# Altium footprint library final_pcb.PcbLib: 13 footprints
Each footprint in its own frame and in the unit in brackets; x right, y up, seen from the top. Pads: shape width x height; smd on the part's side, far side on the other; paste and mask are expansions set on the pad; w line width, h text height; cw(c..) or ccw(c..) is an arc to the next point about the centre after c.
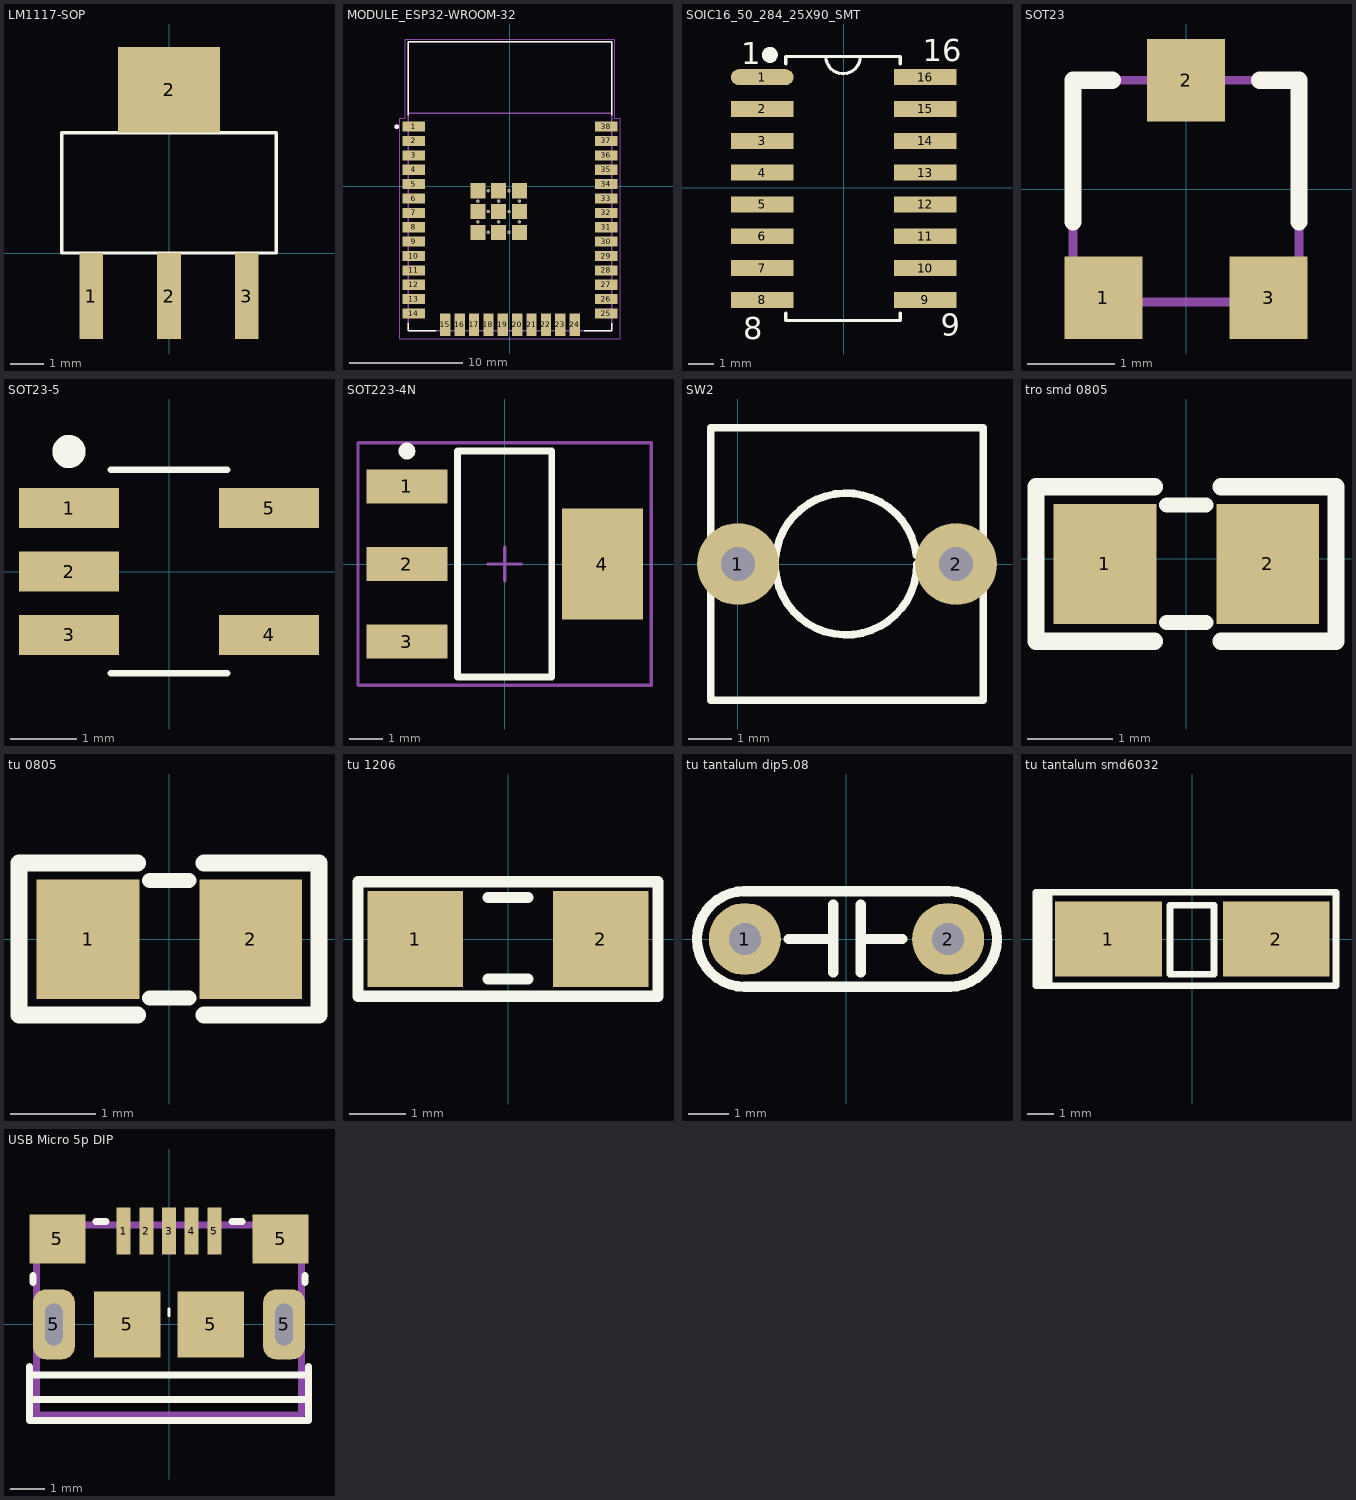
[diagram p0: the footprints below, top view; thin cyan lines are the x and y axes]

## LM1117-SOP [mm]
pads (4):
  rect 0.7x2.54 smd: 1(-2.3,-1.27) 2(0,-1.27) 3(2.3,-1.27)
  rect 3x2.54 smd: 2(0,4.826)
Top Overlay:
  lines w0.1: -3.175,0 -3.175,3.556 3.175,3.556 3.175,0 -3.175,0
3D body "SW3DPS-SOT-223-DEFAULT.step": height 1.68, standoff 0, extent -3.25,-1.778 3.25,5.182

## MODULE_ESP32-WROOM-32 [mm]
pads (59):
  rect 2x0.9 smd: 1(-8.5,5.26) 2(-8.5,3.99) 3(-8.5,2.72) 4(-8.5,1.45) 5(-8.5,0.18) 6(-8.5,-1.09) 7(-8.5,-2.36) 8(-8.5,-3.63) 9(-8.5,-4.9) 10(-8.5,-6.17) 11(-8.5,-7.44) 12(-8.5,-8.71) 13(-8.5,-9.98) 14(-8.5,-11.25) 25(8.5,-11.25) 26(8.5,-9.98) 27(8.5,-8.71) 28(8.5,-7.44) 29(8.5,-6.17) 30(8.5,-4.9) 31(8.5,-3.63) 32(8.5,-2.36) 33(8.5,-1.09) 34(8.5,0.18) 35(8.5,1.45) 36(8.5,2.72) 37(8.5,3.99) 38(8.5,5.26)
  rect 0.9x2 smd: 15(-5.715,-12.25) 16(-4.445,-12.25) 17(-3.175,-12.25) 18(-1.905,-12.25) 19(-0.635,-12.25) 20(0.635,-12.25) 21(1.905,-12.25) 22(3.175,-12.25) 23(4.445,-12.25) 24(5.715,-12.25)
  rect 1.33x1.33 smd: 39_1(-2.835,-0.405) 39_2(-1,-0.405) 39_3(0.835,-0.405) 39_4(-2.835,-2.24) 39_5(-1,-2.24) 39_6(0.835,-2.24) 39_7(-2.835,-4.075) 39_8(-1,-4.075) 39_9(0.835,-4.075)
  round 0.3 hole 0.2: 39_10(-1.917,-0.405) 39_11(-0.082,-0.405) 39_12(-2.835,-1.322) 39_13(-1,-1.322) 39_14(0.835,-1.322) 39_15(-1.917,-2.24) 39_16(-0.082,-2.24) 39_17(-2.835,-3.157) 39_18(-1,-3.157) 39_19(0.835,-3.157) 39_20(-1.917,-4.075) 39_21(-0.082,-4.075)
Top Overlay:
  circle w0.2: c-10,5.25 r0.1
  lines w0.127: -9,-12.1 -9,-12.75 -6.55,-12.75 ; -9,6.25 -9,12.75 9,12.75 9,6.25 ; 6.55,-12.75 9,-12.75 9,-12.1
Mechanical 13:
  circle w0.2: c-10,5.25 r0.1
  lines w0.127: -9,6.45 -9,-12.75 9,-12.75 9,6.45 ; -9,6.45 -9,12.75 9,12.75 9,6.45 ; -9,6.45 9,6.45
  text "ANTENNA" at -6,9 h1.78
Mechanical 15:
  lines w0.05: -9.75,-13.5 9.75,-13.5 9.75,6 9.25,6 9.25,13 -9.25,13 -9.25,6 -9.75,6 -9.75,-13.5
3D body "ESP32-WROOM-32.STEP": height 3.2, standoff 0, extent -9.017,-12.75 8.983,12.75

## SOIC16_50_284_25X90_SMT [mm]
pads (16):
  oval 2.5x0.635 smd mask+0.076: 1(-3.25,4.42)
  rect 2.5x0.635 smd mask+0.076: 2(-3.25,3.15) 3(-3.25,1.88) 4(-3.25,0.61) 5(-3.25,-0.66) 6(-3.25,-1.93) 7(-3.25,-3.2) 8(-3.25,-4.47) 9(3.25,-4.47) 10(3.25,-3.2) 11(3.25,-1.93) 12(3.25,-0.66) 13(3.25,0.61) 14(3.25,1.88) 15(3.25,3.15) 16(3.25,4.42)
Top Overlay:
  circle w0.381: c-2.946,5.309 r0.127
  lines w0.127: -2.311,-5.003 -2.311,-5.295 2.261,-5.295 2.261,-5.003 ; -2.311,4.953 -2.311,5.246 2.261,5.246 2.261,4.953 ; -0.712,5.246 ccw(c-0.025,5.246) 0.662,5.246
  text "1" at -4.089,4.928 h0.89
  text "8" at -4.016,-6.032 h0.89
  text "9" at 3.878,-5.909 h0.89
  text "16" at 3.15,5.055 h0.89
3D body "SOIC-16-1.step": height 1.4, standoff 0, extent -3.025,-4.975 2.975,4.925

## SOT23 [mm]
pads (3):
  rect 0.9x0.95 smd: 1(-0.95,-1.25) 2(0,1.25)
  rect 0.9x0.95 smd mask+0: 3(0.95,-1.25)
Top Overlay:
  lines w0.2: -1.3,-0.375 -1.3,1.25 -0.85,1.25 ; 0.85,1.25 1.3,1.25 1.3,-0.375
Mechanical 7:
  region: 1.225,-1.275 0.625,-1.275 0.625,-1.525 1.225,-1.525
  region: -0.625,-1.275 -1.225,-1.275 -1.225,-1.525 -0.625,-1.525
  rectangle: -0.3,1.25 0.3,1.5
  lines w0.1: -1.3,-1.3 1.3,-1.3 1.3,1.25 -1.3,1.25 -1.3,-1.3
  text ".Designator" at -1.2,0.75 h0.5
  text ".Comment" at -1.2,0.325 h0.5
3D body "SW3DPS-SOT-23-DEFAULT.STEP": height 1.06, standoff -0.04, extent -1.524,-1.23 1.476,1.27

## SOT23-5 [mm]
pads (5):
  rect 1.5x0.6 smd: 1(-1.5,0.95) 2(-1.5,0) 3(-1.5,-0.95) 4(1.5,-0.95) 5(1.5,0.95)
Top Overlay:
  circle w0.25: c-1.5,1.8 r0.125
  lines w0.1: -0.875,-1.525 0.875,-1.525 ; -0.875,1.525 0.875,1.525
3D body: height 0.15, standoff 0, extent 1.219,-1.168 1.753,-0.711
3D body: height 0.9, standoff 0, extent 1.092,-1.168 1.219,-0.711
3D body: height 0.9, standoff 0.75, extent 0.813,-1.168 1.092,-0.711
3D body: height 0.15, standoff 0, extent 1.219,0.732 1.753,1.189
3D body: height 0.9, standoff 0, extent 1.092,0.732 1.219,1.189
3D body: height 0.9, standoff 0.75, extent 0.813,0.732 1.092,1.189
3D body: height 0.15, standoff 0, extent -1.753,-1.189 -1.219,-0.732
3D body: height 0.9, standoff 0, extent -1.219,-1.189 -1.092,-0.732
3D body: height 0.9, standoff 0.75, extent -1.092,-1.189 -0.813,-0.732
3D body: height 0.15, standoff 0, extent -1.753,-0.239 -1.219,0.218
3D body: height 0.9, standoff 0, extent -1.219,-0.239 -1.092,0.218
3D body: height 0.9, standoff 0.75, extent -1.092,-0.239 -0.813,0.218
3D body: height 1.45, standoff 0, extent -0.875,-1.525 0.875,1.525
3D body: height 0.9, standoff 0.75, extent -1.092,0.711 -0.813,1.168
3D body: height 0.9, standoff 0, extent -1.219,0.711 -1.092,1.168
3D body: height 0.15, standoff 0, extent -1.753,0.711 -1.219,1.168

## SOT223-4N [mm]
pads (4):
  rect 2.4x1 smd: 1(-2.9,2.3) 2(-2.9,0) 3(-2.9,-2.3)
  rect 2.4x3.3 smd: 4(2.9,0)
Top Overlay:
  circle w0.25: c-2.9,3.35 r0.125
  lines w0.2: -1.4,-3.35 1.4,-3.35 1.4,3.35 -1.4,3.35 -1.4,-3.35
Mechanical 15:
  lines w0.1: -0.5,0 0.5,0 ; 0,-0.5 0,0.5 ; -4.35,-3.6 4.35,-3.6 4.35,3.6 -4.35,3.6 -4.35,-3.6
3D body "SW3dPS-Regulator.STEP": height 1.72, standoff 0.02, extent -3.395,-3.274 3.496,3.226

## SW2 [mil]
pads (2):
  round 75 hole 31: 1(0,0) 2(200,0)
Top Overlay:
  lines w7: 163.64,8.26 ccw(c99.17,0) 164.17,0 ; -25,-125 225,-125 225,125 -25,125 -25,-125

## tro smd 0805 [mm]
pads (2):
  rect 1.2x1.4 smd: 1(-0.946,-0.061) 2(0.954,-0.061)
Top Overlay:
  lines w0.178: -0.224,-0.747 0.233,-0.747 ; -0.224,0.625 0.233,0.625
  lines w0.2: -0.367,-0.965 -1.75,-0.965 -1.75,0.838 -0.367,0.838 ; 0.408,-0.965 1.75,-0.965 1.75,0.838 0.408,0.838
3D body "Tro 0805.STEP": height 0.53, standoff 0, extent -1.562,-0.763 1.438,0.637

## tu 0805 [mm]
pads (2):
  rect 1.2x1.4 smd: 1(-0.946,-0.003) 2(0.954,-0.003)
Top Overlay:
  lines w0.178: -0.224,-0.689 0.233,-0.689 ; -0.224,0.682 0.233,0.682
  lines w0.2: -0.367,-0.889 -1.753,-0.889 -1.753,0.889 -0.367,0.889 ; 0.408,-0.889 1.753,-0.889 1.753,0.889 0.408,0.889
3D body "SW3dPS-smt_resistor_packages.STEP": height 0.61, standoff -0.01, extent -1.006,-0.638 1.014,0.632

## tu 1206 [mm]
pads (2):
  rect 1.7x1.7 smd: 1(-1.65,0) 2(1.65,0)
Top Overlay:
  lines w0.2: -0.356,-0.711 0.356,-0.711 ; -0.356,0.737 0.356,0.737 ; -2.667,-1.016 -2.667,1.016 2.667,1.016 2.667,-0.483 2.667,-1.016 -2.667,-1.016
3D body "capacitor 1206.step": height 0.94, standoff 0, extent -1.575,-0.8 1.625,0.8

## tu tantalum dip5.08 [mm]
pads (2):
  round 1.8 hole 0.8: 1(-2.54,0) 2(2.54,0)
Top Overlay:
  lines w0.254: -2.565,1.194 2.565,1.194 ; -2.541,-1.195 cw(c-2.54,0) -2.541,1.195 ; -2.489,-1.194 2.591,-1.194 ; -1.448,0 -0.406,0 ; -0.33,-0.838 -0.33,0.864 ; 0.356,-0.838 0.356,0.864 ; 0.356,0 1.397,0 ; 2.566,-1.195 ccw(c2.565,0) 2.566,1.195
3D body "TU_TATA_5.08.step": height 6.27, standoff -0.47, extent -2.819,-1.079 2.769,1.08

## tu tantalum smd6032 [mm]
pads (2):
  rect 4x2.8 smd: 1(-3.15,0) 2(3.15,0)
Top Overlay:
  lines w0.254: -5.867,-1.753 -5.486,-1.753 ; -5.867,-1.75 -5.867,1.75 ; -5.867,1.753 -5.563,1.753 ; -5.613,-1.75 -5.613,1.75 ; -5.563,-1.75 5.385,-1.75 5.385,1.75 -5.563,1.75 ; -5.385,-1.75 -5.385,1.75 ; -0.838,-1.321 0.813,-1.321 0.813,1.27 -0.838,1.27 -0.838,-1.321
3D body "CAP_TANT_6032-28_y.step": height 2.79, standoff -0.01, extent -3.15,-1.75 3.15,1.75

## USB Micro 5p DIP [mm]
pads (11):
  rect 0.4x1.35 smd mask+0.05: 1(-1.3,2.675) 2(-0.65,2.675) 3(0,2.675) 4(0.65,2.675) 5(1.3,2.675)
  rrect60% 1.2x2 hole 0.5 slot 1.2 at 90 deg: 5(-3.3,0) 5(3.3,0)
  rect 1.6x1.4 smd: 5(-3.2,2.45) 5(3.2,2.45)
  rect 1.9x1.9 smd paste-10: 5(-1.2,0) 5(1.2,0)
Top Overlay:
  lines w0.08: 0,0.25 0,0.45
  lines w0.2: -4,-2.15 4,-2.15 ; -4,-1.45 4,-1.45 ; -4,-1.2 -4,-2.75 4,-2.75 4,-1.2 ; -3.9,1.2 -3.9,1.4 ; -2.1,2.95 -1.8,2.95 ; 1.8,2.95 2.1,2.95 ; 3.9,1.2 3.9,1.4
Mechanical 16:
  lines w0.2: -3.8,-2.6 -3.8,2.85 3.8,2.85 3.8,-2.6 -3.8,-2.6
Mechanical 29:
  text ".Designator" at 0.6,-1.2 h1.52
3D body "10118193.step": height 2.85, standoff -0.75, extent -3.929,-2.76 3.928,2.9